# EAGLE library part RADIO_CONN (library rct_ui_board)
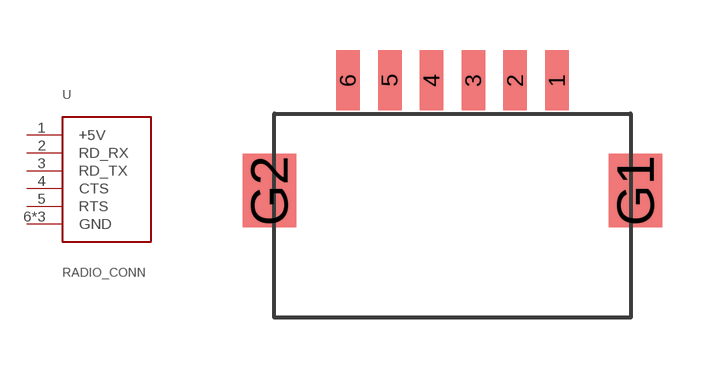
[diagram p2: symbol with the pads of DF13C-6P-1.25V; footprint DF13C-6P-1.25V]

Designator prefix -

## RADIO_CONN  [DF13C-6P-1.25V]
1  +5V  pwr
2  RD_RX  in
3  RD_TX  out
4  CTS  in
5  RTS  out
6  GND  sup
G1  GND  sup
G2  GND  sup

## Footprint DF13C-6P-1.25V (pad centres in mm)
smd 0.7 x 1.8: 1 3.125,7.1; 2 1.875,7.1; 3 0.625,7.1; 4 -0.625,7.1; 5 -1.875,7.1; 6 -3.125,7.1
smd 1.6 x 2.2: G1 5.475,3.8; G2 -5.475,3.8